# Altium schematic symbol library SCH - INTERFACE - TI TRS3122ERGER.Schlib: 1 symbol
Pins are listed as number, name and electrical type; pins without a type are passive.

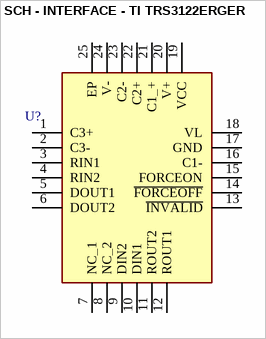
[diagram p0: symbol SCH - INTERFACE - TI TRS3122ERGER]

## SCH - INTERFACE - TI TRS3122ERGER
designator U?
footprint QFN50P400X400X100-25N-D
pins: 1 C3+, 2 C3-, 3 RIN1, 4 RIN2, 5 DOUT1, 6 DOUT2, 7 NC_1, 8 NC_2, 9 DIN2, 10 DIN1, 11 ROUT2, 12 ROUT1, 13 ~{INVALID}, 14 ~{FORCEOFF}, 15 FORCEON, 16 C1-, 17 GND, 18 VL, 19 VCC, 20 V+, 21 C1_+, 22 C2+, 23 C2-, 24 V-, 25 EP